# Altium footprint library SN74LVCH16T245DGGR.PcbLib: 3 footprints
Each footprint in its own frame and in the unit in brackets; x right, y up, seen from the top. Pads: shape width x height; smd on the part's side, far side on the other; paste and mask are expansions set on the pad; w line width, h text height; cw(c..) or ccw(c..) is an arc to the next point about the centre after c.
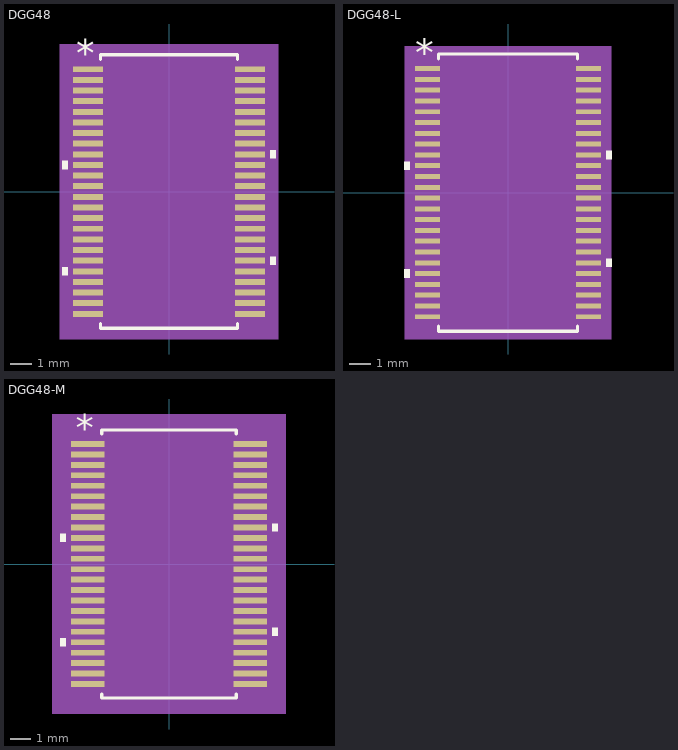
[diagram p0: the footprints below, top view; thin cyan lines are the x and y axes]

## DGG48 [mm]
pads (48):
  rect 1.404x0.279 smd paste+0 mask+0: 1(-3.801,5.75) 2(-3.801,5.25) 3(-3.801,4.75) 4(-3.801,4.25) 5(-3.801,3.75) 6(-3.801,3.25) 7(-3.801,2.75) 8(-3.801,2.25) 9(-3.801,1.75) 10(-3.801,1.25) 11(-3.801,0.75) 12(-3.801,0.25) 13(-3.801,-0.25) 14(-3.801,-0.75) 15(-3.801,-1.25) 16(-3.801,-1.75) 17(-3.801,-2.25) 18(-3.801,-2.75) 19(-3.801,-3.25) 20(-3.801,-3.75) 21(-3.801,-4.25) 22(-3.801,-4.75) 23(-3.801,-5.25) 24(-3.801,-5.75) 25(3.801,-5.75) 26(3.801,-5.25) 27(3.801,-4.75) 28(3.801,-4.25) 29(3.801,-3.75) 30(3.801,-3.25) 31(3.801,-2.75) 32(3.801,-2.25) 33(3.801,-1.75) 34(3.801,-1.25) 35(3.801,-0.75) 36(3.801,-0.25) 37(3.801,0.25) 38(3.801,0.75) 39(3.801,1.25) 40(3.801,1.75) 41(3.801,2.25) 42(3.801,2.75) 43(3.801,3.25) 44(3.801,3.75) 45(3.801,4.25) 46(3.801,4.75) 47(3.801,5.25) 48(3.801,5.75)
Top Overlay:
  region: -4.757,1.441 -5.011,1.441 -5.011,1.06 -4.757,1.06
  region: -4.757,-3.56 -5.011,-3.56 -5.011,-3.941 -4.757,-3.941
  region: 4.757,-3.06 5.011,-3.06 5.011,-3.441 4.757,-3.441
  region: 4.757,1.941 5.011,1.941 5.011,1.56 4.757,1.56
  lines w0.152: -3.226,-6.222 -3.226,-6.426 3.226,-6.426 3.226,-6.222 ; -3.226,6.222 -3.226,6.426 3.226,6.426 3.226,6.222
  text "*" at -4.372,5.902 h1.27
Mechanical 5:
  region: 5.138,-6.934 -5.138,-6.934 -5.138,6.934 5.138,6.934
Mechanical 13:
  drawing of 197 lines, arcs and shapes, not listed
  text "*" at -3.035,4.953 h1.27
Mechanical 15:
  region: -3.353,-6.144 -4.757,-6.144 -4.757,6.144 -3.353,6.144 -3.353,6.553 3.353,6.553 3.353,6.144 4.757,6.144 4.757,-6.144 3.353,-6.144 3.353,-6.553 -3.353,-6.553
  lines w0.152: -4.757,-6.144 -4.757,6.144 -3.353,6.144 -3.353,6.553 3.353,6.553 3.353,6.144 4.757,6.144 4.757,-6.144 3.353,-6.144 3.353,-6.553 -3.353,-6.553 -3.353,-6.144 -4.757,-6.144
3D body "DGG48.step": height 1.2, standoff 0, extent -4.153,-6.299 4.153,6.299

## DGG48-L [mm]
pads (48):
  rect 1.162x0.229 smd paste+0 mask+0: 1(-3.722,5.75) 2(-3.722,5.25) 3(-3.722,4.75) 4(-3.722,4.25) 5(-3.722,3.75) 6(-3.722,3.25) 7(-3.722,2.75) 8(-3.722,2.25) 9(-3.722,1.75) 10(-3.722,1.25) 11(-3.722,0.75) 12(-3.722,0.25) 13(-3.722,-0.25) 14(-3.722,-0.75) 15(-3.722,-1.25) 16(-3.722,-1.75) 17(-3.722,-2.25) 18(-3.722,-2.75) 19(-3.722,-3.25) 20(-3.722,-3.75) 21(-3.722,-4.25) 22(-3.722,-4.75) 23(-3.722,-5.25) 24(-3.722,-5.75) 25(3.722,-5.75) 26(3.722,-5.25) 27(3.722,-4.75) 28(3.722,-4.25) 29(3.722,-3.75) 30(3.722,-3.25) 31(3.722,-2.75) 32(3.722,-2.25) 33(3.722,-1.75) 34(3.722,-1.25) 35(3.722,-0.75) 36(3.722,-0.25) 37(3.722,0.25) 38(3.722,0.75) 39(3.722,1.25) 40(3.722,1.75) 41(3.722,2.25) 42(3.722,2.75) 43(3.722,3.25) 44(3.722,3.75) 45(3.722,4.25) 46(3.722,4.75) 47(3.722,5.25) 48(3.722,5.75)
Top Overlay:
  region: -4.557,1.441 -4.811,1.441 -4.811,1.06 -4.557,1.06
  region: -4.557,-3.56 -4.811,-3.56 -4.811,-3.941 -4.557,-3.941
  region: 4.557,-3.06 4.811,-3.06 4.811,-3.441 4.557,-3.441
  region: 4.557,1.941 4.811,1.941 4.811,1.56 4.557,1.56
  lines w0.152: -3.226,-6.197 -3.226,-6.426 3.226,-6.426 3.226,-6.197 ; -3.226,6.197 -3.226,6.426 3.226,6.426 3.226,6.197
  text "*" at -4.293,5.852 h1.27
Mechanical 5:
  region: 4.785,-6.782 -4.785,-6.782 -4.785,6.782 4.785,6.782
Mechanical 13:
  drawing of 197 lines, arcs and shapes, not listed
  text "*" at -3.035,4.953 h1.27
Mechanical 15:
  region: -3.2,-5.966 -4.404,-5.966 -4.404,5.966 -3.2,5.966 -3.2,6.401 3.2,6.401 3.2,5.966 4.404,5.966 4.404,-5.966 3.2,-5.966 3.2,-6.401 -3.2,-6.401
  lines w0.152: -4.404,-5.966 -4.404,5.966 -3.2,5.966 -3.2,6.401 3.2,6.401 3.2,5.966 4.404,5.966 4.404,-5.966 3.2,-5.966 3.2,-6.401 -3.2,-6.401 -3.2,-5.966 -4.404,-5.966
3D body "DGG48.step": height 1.2, standoff 0, extent -4.153,-6.299 4.153,6.299

## DGG48-M [mm]
pads (48):
  rect 1.604x0.279 smd paste+0 mask+0: 1(-3.901,5.75) 2(-3.901,5.25) 3(-3.901,4.75) 4(-3.901,4.25) 5(-3.901,3.75) 6(-3.901,3.25) 7(-3.901,2.75) 8(-3.901,2.25) 9(-3.901,1.75) 10(-3.901,1.25) 11(-3.901,0.75) 12(-3.901,0.25) 13(-3.901,-0.25) 14(-3.901,-0.75) 15(-3.901,-1.25) 16(-3.901,-1.75) 17(-3.901,-2.25) 18(-3.901,-2.75) 19(-3.901,-3.25) 20(-3.901,-3.75) 21(-3.901,-4.25) 22(-3.901,-4.75) 23(-3.901,-5.25) 24(-3.901,-5.75) 25(3.901,-5.75) 26(3.901,-5.25) 27(3.901,-4.75) 28(3.901,-4.25) 29(3.901,-3.75) 30(3.901,-3.25) 31(3.901,-2.75) 32(3.901,-2.25) 33(3.901,-1.75) 34(3.901,-1.25) 35(3.901,-0.75) 36(3.901,-0.25) 37(3.901,0.25) 38(3.901,0.75) 39(3.901,1.25) 40(3.901,1.75) 41(3.901,2.25) 42(3.901,2.75) 43(3.901,3.25) 44(3.901,3.75) 45(3.901,4.25) 46(3.901,4.75) 47(3.901,5.25) 48(3.901,5.75)
Top Overlay:
  region: -4.957,1.441 -5.211,1.441 -5.211,1.06 -4.957,1.06
  region: -4.957,-3.56 -5.211,-3.56 -5.211,-3.941 -4.957,-3.941
  region: 4.957,-3.06 5.211,-3.06 5.211,-3.441 4.957,-3.441
  region: 4.957,1.941 5.211,1.941 5.211,1.56 4.957,1.56
  lines w0.152: -3.226,-6.222 -3.226,-6.426 3.226,-6.426 3.226,-6.222 ; -3.226,6.222 -3.226,6.426 3.226,6.426 3.226,6.222
  text "*" at -4.472,5.902 h1.27
Mechanical 5:
  region: 5.592,-7.188 -5.592,-7.188 -5.592,7.188 5.592,7.188
Mechanical 13:
  drawing of 197 lines, arcs and shapes, not listed
  text "*" at -3.035,4.953 h1.27
Mechanical 15:
  region: -3.607,-6.398 -5.211,-6.398 -5.211,6.398 -3.607,6.398 -3.607,6.807 3.607,6.807 3.607,6.398 5.211,6.398 5.211,-6.398 3.607,-6.398 3.607,-6.807 -3.607,-6.807
  lines w0.152: -5.211,-6.398 -5.211,6.398 -3.607,6.398 -3.607,6.807 3.607,6.807 3.607,6.398 5.211,6.398 5.211,-6.398 3.607,-6.398 3.607,-6.807 -3.607,-6.807 -3.607,-6.398 -5.211,-6.398
3D body "DGG48.step": height 1.2, standoff 0, extent -4.153,-6.299 4.153,6.299